# EAGLE library part AD5263BRUZ20-REEL7 (library HyTechDevices)
AD5263 20 kΩ Digital Potentiometer Datasheet <https://www.mouser.com/datasheet/2/609/AD5263-1501493.pdf>
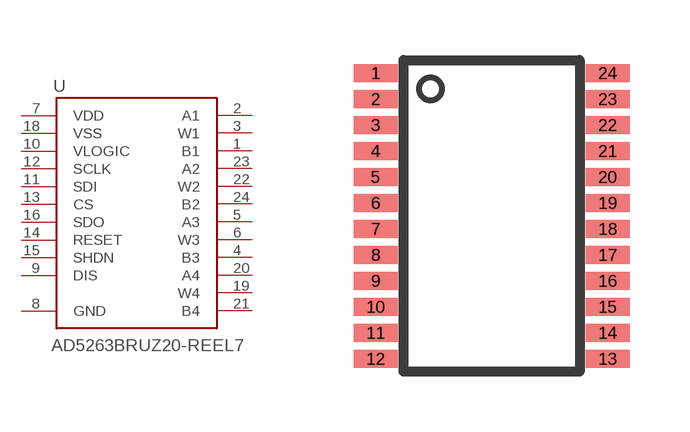
[diagram p45: symbol with the pads of TSSOP-24; footprint TSSOP-24]

Designator prefix U

## AD5263BRUZ20-REEL7 (DKPN: AD5263BRUZ20-REEL7CT-ND; MOPN: 584-AD5263BRUZ20-R7; RESISTANCE: 20kΩ; TOLERANCE: 30%)  [TSSOP-24]
1  B1  pas
2  A1  pas
3  W1  pas
4  B3  pas
5  A3  pas
6  W3  pas
7  VDD  pas
8  GND  pas
9  DIS  pas
10  VLOGIC  pas
11  SDI  pas
12  SCLK  pas
13  CS  pas
14  RESET  pas
15  SHDN  pas
16  SDO  pas
18  VSS  pas
19  W4  pas
20  A4  pas
21  B4  pas
22  W2  pas
23  A2  pas
24  B2  pas

## Footprint TSSOP-24 (pad centres in mm)
20-Lead Thin Shrink Small Outline Package TSSOP Source: https://www.analog.com/media/en/package-pcb-resources/package/380523655245964505593671154107510036154ru24.pdf
smd 1.1 x 0.45: 1 -2.9,3.575; 2 -2.9,2.925; 3 -2.9,2.275; 4 -2.9,1.625; 5 -2.9,0.975; 6 -2.9,0.325; 7 -2.9,-0.325; 8 -2.9,-0.975; 9 -2.9,-1.625; 10 -2.9,-2.275; 11 -2.9,-2.925; 12 -2.9,-3.575; 13 2.9,-3.575; 14 2.9,-2.925; 15 2.9,-2.275; 16 2.9,-1.625; 17 2.9,-0.975; 18 2.9,-0.325; 19 2.9,0.325; 20 2.9,0.975; 21 2.9,1.625; 22 2.9,2.275; 23 2.9,2.925; 24 2.9,3.575